# Altium footprint library PCB - LEADLESS - SON - INFINEON PG-TDSON-8.PCBLIB: 1 footprints
Each footprint in its own frame and in the unit in brackets; x right, y up, seen from the top. Pads: shape width x height; smd on the part's side, far side on the other; paste and mask are expansions set on the pad; w line width, h text height; cw(c..) or ccw(c..) is an arc to the next point about the centre after c.
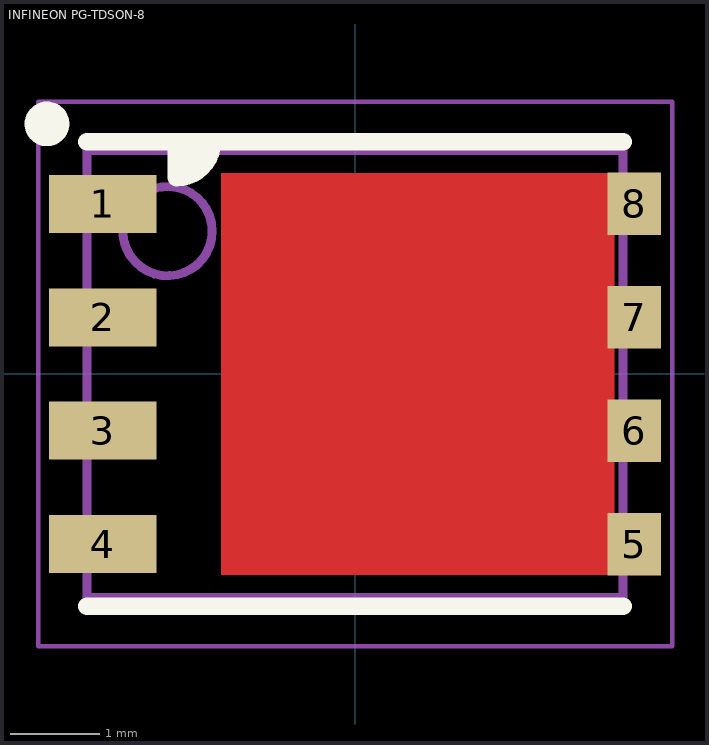
[diagram p0: the footprint, top view; thin cyan lines are the x and y axes]

## INFINEON PG-TDSON-8 [mm] "TDSON, 8-Leads, Body 6x5mm, Pitch 1.27mm, Thermal Pad 1.65x2.38mm, IPC Medium Density"
height 1
pads (8):
  rect 1.2x0.65 smd: 1(-2.825,1.905) 2(-2.825,0.635) 3(-2.825,-0.635) 4(-2.825,-1.905)
  rect 0.6x0.7 smd: 5(3.125,-1.905) 6(3.125,-0.635) 7(3.125,0.635) 8(3.125,1.905)
Top Layer:
  region: -1.5,-2.25 2.9,-2.25 2.9,2.25 -1.5,2.25
Top Overlay:
  circle w0.25: c-3.45,2.8 r0.125
  region: -2,2.6 -1.6,2.6 -1.6,2.52 -1.661,2.373 -1.773,2.261 -1.92,2.2 -2,2.2
  lines w0.2: -3,-2.6 3,-2.6 ; -3,2.6 3,2.6 ; -2,2.6 -2,2.2 ; -1.6,2.6 cw(c-2,2.6) -2,2.2 ; -2,2.2 -2,2.2
Top Paste:
  rectangle: -1.247,1.196 -0.1,1.941
  rectangle: -1.247,-0.895 -0.1,-0.15
  rectangle: -1.247,-1.941 -0.1,-1.196
  rectangle: -1.247,0.15 -0.1,0.895
  region: 1.247,0.895 0.1,0.895 0.1,0.15 1.247,0.15
  region: 1.247,-1.196 0.1,-1.196 0.1,-1.941 1.247,-1.941
  region: 1.247,-0.15 0.1,-0.15 0.1,-0.895 1.247,-0.895
  region: 1.247,1.941 0.1,1.941 0.1,1.196 1.247,1.196
  region: 2.594,1.941 1.447,1.941 1.447,1.196 2.594,1.196
  region: 2.594,-0.15 1.447,-0.15 1.447,-0.895 2.594,-0.895
  region: 2.594,-1.196 1.447,-1.196 1.447,-1.941 2.594,-1.941
  region: 2.594,0.895 1.447,0.895 1.447,0.15 2.594,0.15
Mechanical 13:
  circle w0.1: c-2.1,1.6 r0.5
  lines w0.1: -3,-2.5 3,-2.5 3,2.5 -3,2.5 -3,-2.5
Mechanical 15:
  lines w0.05: -3.55,-3.05 3.55,-3.05 3.55,3.05 -3.55,3.05 -3.55,-3.05
  lines w0.1: -0.5,0 0.5,0 ; 0,-0.5 0,0.5
3D body "PG-TDSON-8.STEP": height 1, standoff 0, extent -3.075,-2.575 3.075,2.575